# Altium schematic symbol library Sensors.SchLib: 2 symbols
Pins are listed as number, name and electrical type; pins without a type are passive.

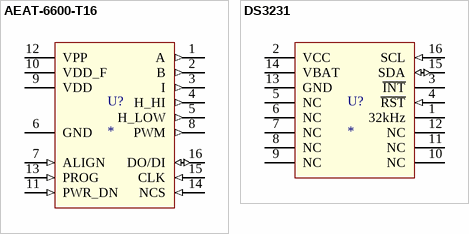
[diagram p0: symbols AEAT-6600-T16 to DS3231]

## AEAT-6600-T16
designator U?
Magnetic rotary encoder IC
pins: 1 A (out), 2 B (out), 3 I (out), 4 H_HI (out), 5 H_LOW (out), 6 GND (power), 7 ALIGN (in), 8 PWM (out), 9 VDD (power), 10 VDD_F (power), 11 PWR_DN (in), 12 VPP (power), 13 PROG (in), 14 NCS (in), 15 CLK (in), 16 DO/DI (io)

## DS3231
designator U?
RTC with internal TCX, uses I2C
pins: 1 32kHz (oc), 2 VCC (power), 3 ~{INT} (oc), 4 ~{RST} (in), 5 NC, 6 NC, 7 NC, 8 NC, 9 NC, 10 NC, 11 NC, 12 NC, 13 GND (power), 14 VBAT (power), 15 SDA (io), 16 SCL (in)